# EAGLE library part MTA08-156 (library matt con-amp)
AMP connector
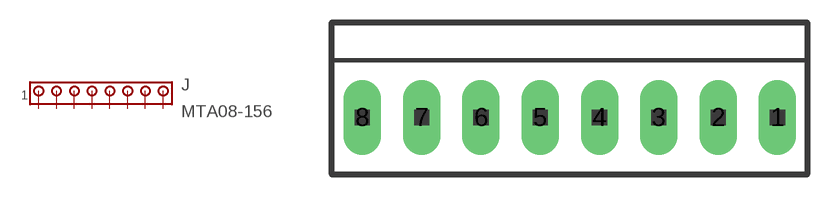
[diagram p113: symbol with the pads of 1X8MTA; footprint 1X8MTA]

Designator prefix J

## MTA08-156  [1X8MTA]
1  1  pas
2  2  pas
3  3  pas
4  4  pas
5  5  pas
6  6  pas
7  7  pas
8  8  pas

## Footprint 1X8MTA (pad centres in mm)
AMP MTA connector
drill 1.676 long: 1 13.868,0; 2 9.906,0; 3 5.944,0; 4 1.981,0; 5 -1.981,0; 6 -5.944,0; 7 -9.906,0; 8 -13.868,0